# Altium footprint library Crystals.PcbLib: 3 footprints
Each footprint in its own frame and in the unit in brackets; x right, y up, seen from the top. Pads: shape width x height; smd on the part's side, far side on the other; paste and mask are expansions set on the pad; w line width, h text height; cw(c..) or ccw(c..) is an arc to the next point about the centre after c.
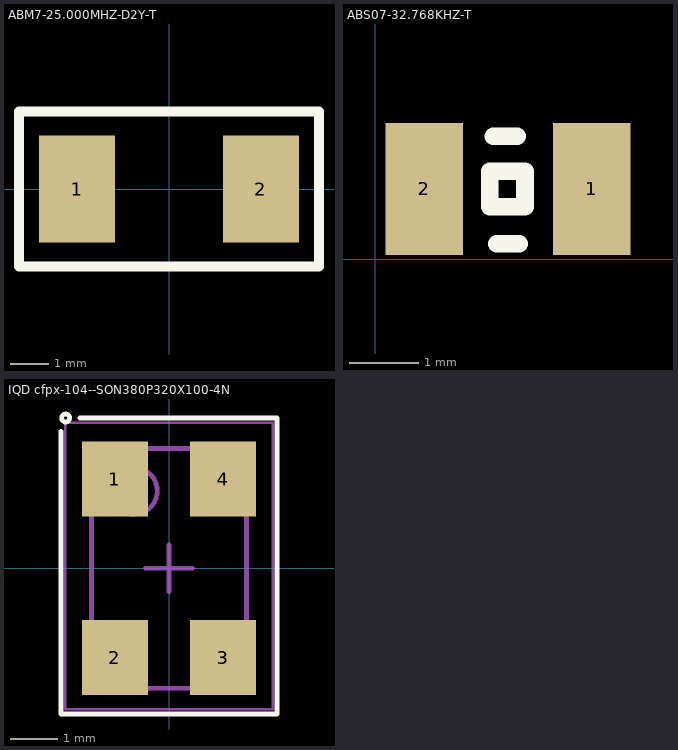
[diagram p0: the footprints below, top view; thin cyan lines are the x and y axes]

## ABM7-25.000MHZ-D2Y-T [mm] "25MHz"
pads (2):
  rect 2x2.8 smd: 1(-2.413,0) 2(2.413,0)
Top Overlay:
  lines w0.254: -3.937,-2.032 -3.937,2.032 3.937,2.032 3.937,-2.032 -3.937,-2.032
3D body "ABM7.STEP": height 1.4, standoff 0, extent -2.997,-1.753 2.997,1.753

## ABS07-32.768KHZ-T [mil]
pads (2):
  rect 44x75 smd: 1(123,40) 2(27.76,40)
Top Overlay:
  lines w10: 66.93,69.88 80.71,69.88 ; 68.9,8.86 81.69,8.86 ; 65,30 65,50 85,50 85,30 65,30
3D body "ABS07.stp": height 36.61, standoff 0.79, extent 11.62,10.09 138.39,69.93

## IQD cfpx-104--SON380P320X100-4N [mm] "IQD Crystal cfpx-104--SON, 4-Leads, Body 5.00x3.20mm, Pitch 3.80mm, IPC Medium Density"
height 1
pads (4):
  rect 1.4x1.6 smd: 1(-1.15,1.9) 2(-1.15,-1.9) 3(1.15,-1.9) 4(1.15,1.9)
Top Overlay:
  lines w0.1: -2.3,2.921 -2.3,-3.1 2.3,-3.1 2.3,3.2 -1.9,3.2 ; -2.285,3.195 cw(c-2.2,3.2) -2.283,3.181
Mechanical 13:
  circle w0.1: c-0.75,1.65 r0.5
  lines w0.1: -1.65,-2.55 1.65,-2.55 1.65,2.55 -1.65,2.55 -1.65,-2.55
Mechanical 15:
  lines w0.05: -2.205,-3 2.205,-3 2.205,3.1 -2.205,3.1 -2.205,-3
  lines w0.1: -0.5,0 0.5,0 ; 0,-0.5 0,0.5
3D body "IQD cfpx-104--SON380P320X100-4N.step": height 1, standoff 0.1, extent -1.65,-2.55 1.65,2.55